# Altium integrated library TI Amplifiers and Linear Operational Amplifier Precision Amplifier Part One.IntLib: 2299 symbols (part 71 of 85)
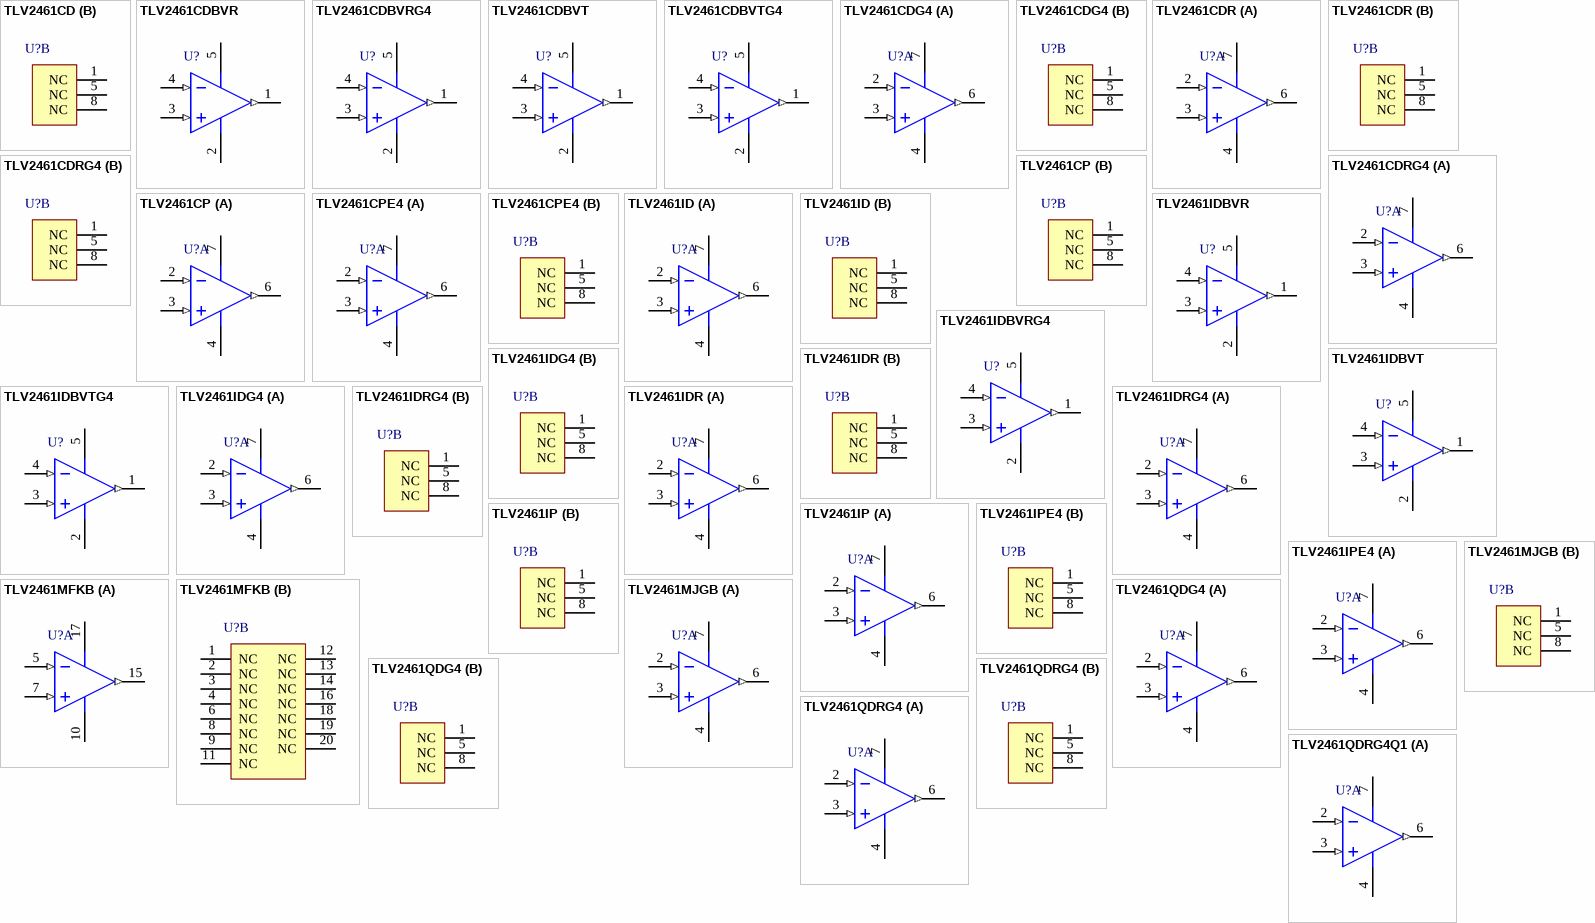
[diagram p194: symbols TLV2461CD to TLV2461QDRG4Q1]

## TLV2461CDBVRG4
designator U?
Single, Low Power, Rail-to-Rail Input / Output Operational Amplifier, 2.7 to 6 V, 0 to 70 degC, 5-pin SOT23 (DBV5), Green (RoHS & no Sb/Br); Manufacturer: Texas Instruments; PartNumber: TLV2461CDBVRG4; CMRR(Min)(dB): 66; IIB(Max)(pA): 14000; Iq per channel(Max)(mA): 0.575; Number of Channels: 1; Offset Drift(Typ)(uV/C): 2; Slew Rate(Typ)(V/us): 1.6; Sub Family: High Output Current Amplifier (>=50mA), Low Supply Voltage Amplifier (<=2.7V), Precision Amplifier; Total Supply Voltage(Max)(+5V is 5, +/-5V is 10): 6; Total Supply Voltage(Min)(+5V is 5, +/-5V is 10): 2.7; Vn at 1kHz(Typ)(nV/rtHz): 11; DatasheetVersion: SLOS220J; PackageVersion: 4073253-4/K, 03/2006; PackageReference: DBV5; PackageDescription: 5-Pin Plastic Small Outline, Body 1.6 x 2.9 mm, Pitch 0.95 mm; Supplier 1: Digi-Key; Supplier Part Number 1: TLV2461CDBVRG4-ND; Supplier 2: Newark; Supplier Part Number 2: 71J7980; Supplier 3: Mouser; Supplier Part Number 3: 595-TLV2461CDBVRG4; Eco-Plan: Green (RoHS & no Sb/Br); Vio (25C)(Max)(mV): 2; Mounting Technology: Surface Mount; Code_JEDEC: MO-178; ComponentLink1Description: Manufacturer URL; ComponentLink1URL: http://www.ti.com/; ComponentLink2Description: Datasheet; ComponentLink2URL: http://www.ti.com/general/docs/lit/getliterature.tsp?genericPartNumber=TLV2461&fileType=pdf; ComponentLink3Description: Package Specification; ComponentLink3URL: http://www.ti.com/litv/pdf/mpds018i
footprint TI-DBV5_N (SOT23, 5-Leads, Body 2.9x1.6mm, Pitch 0.95mm, IPC Medium Density)
footprint TI-DBV5_L (SOT23, 5-Leads, Body 2.9x1.6mm, Pitch 0.95mm, IPC High Density)
footprint TI-DBV5_M (SOT23, 5-Leads, Body 2.9x1.6mm, Pitch 0.95mm, IPC Low Density)
pins: 1 OUT (out), 2 GND (power), 3 IN+ (in), 4 IN- (in), 5 VDD (power)

## TLV2461CDBVT
designator U?
Single, Low Power, Rail-to-Rail Input / Output Operational Amplifier, 2.7 to 6 V, 0 to 70 degC, 5-pin SOT23 (DBV5), Green (RoHS & no Sb/Br); Manufacturer: Texas Instruments; PartNumber: TLV2461CDBVT; CMRR(Min)(dB): 66; IIB(Max)(pA): 14000; Iq per channel(Max)(mA): 0.575; Number of Channels: 1; Offset Drift(Typ)(uV/C): 2; Slew Rate(Typ)(V/us): 1.6; Sub Family: High Output Current Amplifier (>=50mA), Low Supply Voltage Amplifier (<=2.7V), Precision Amplifier; Total Supply Voltage(Max)(+5V is 5, +/-5V is 10): 6; Total Supply Voltage(Min)(+5V is 5, +/-5V is 10): 2.7; Vn at 1kHz(Typ)(nV/rtHz): 11; DatasheetVersion: SLOS220J; PackageVersion: 4073253-4/K, 03/2006; PackageReference: DBV5; PackageDescription: 5-Pin Plastic Small Outline, Body 1.6 x 2.9 mm, Pitch 0.95 mm; Supplier 1: Digi-Key; Supplier Part Number 1: 296-2433-2-ND; Supplier 2: Digi-Key; Supplier Part Number 2: 296-2433-1-ND; Supplier 3: Digi-Key; Supplier Part Number 3: 296-2433-6-ND; Supplier 4: Farnell; Supplier Part Number 4: 8455147; Supplier 5: Newark; Supplier Part Number 5: 38K8435; Supplier 6: Mouser; Supplier Part Number 6: 595-TLV2461CDBVT; Eco-Plan: Green (RoHS & no Sb/Br); Vio (25C)(Max)(mV): 2; Mounting Technology: Surface Mount; Code_JEDEC: MO-178; ComponentLink1Description: Manufacturer URL; ComponentLink1URL: http://www.ti.com/; ComponentLink2Description: Datasheet; ComponentLink2URL: http://www.ti.com/general/docs/lit/getliterature.tsp?genericPartNumber=TLV2461&fileType=pdf; ComponentLink3Description: Package Specification; ComponentLink3URL: http://www.ti.com/litv/pdf/mpds018i
footprint TI-DBV5_N (SOT23, 5-Leads, Body 2.9x1.6mm, Pitch 0.95mm, IPC Medium Density)
footprint TI-DBV5_L (SOT23, 5-Leads, Body 2.9x1.6mm, Pitch 0.95mm, IPC High Density)
footprint TI-DBV5_M (SOT23, 5-Leads, Body 2.9x1.6mm, Pitch 0.95mm, IPC Low Density)
pins: 1 OUT (out), 2 GND (power), 3 IN+ (in), 4 IN- (in), 5 VDD (power)

## TLV2461CDBVTG4
designator U?
Single, Low Power, Rail-to-Rail Input / Output Operational Amplifier, 2.7 to 6 V, 0 to 70 degC, 5-pin SOT23 (DBV5), Green (RoHS & no Sb/Br); Manufacturer: Texas Instruments; PartNumber: TLV2461CDBVTG4; CMRR(Min)(dB): 66; IIB(Max)(pA): 14000; Iq per channel(Max)(mA): 0.575; Number of Channels: 1; Offset Drift(Typ)(uV/C): 2; Slew Rate(Typ)(V/us): 1.6; Sub Family: High Output Current Amplifier (>=50mA), Low Supply Voltage Amplifier (<=2.7V), Precision Amplifier; Total Supply Voltage(Max)(+5V is 5, +/-5V is 10): 6; Total Supply Voltage(Min)(+5V is 5, +/-5V is 10): 2.7; Vn at 1kHz(Typ)(nV/rtHz): 11; DatasheetVersion: SLOS220J; PackageVersion: 4073253-4/K, 03/2006; PackageReference: DBV5; PackageDescription: 5-Pin Plastic Small Outline, Body 1.6 x 2.9 mm, Pitch 0.95 mm; Supplier 1: Digi-Key; Supplier Part Number 1: TLV2461CDBVTG4-ND; Supplier 2: Mouser; Supplier Part Number 2: 595-TLV2461CDBVTG4; Eco-Plan: Green (RoHS & no Sb/Br); Vio (25C)(Max)(mV): 2; Mounting Technology: Surface Mount; Code_JEDEC: MO-178; ComponentLink1Description: Manufacturer URL; ComponentLink1URL: http://www.ti.com/; ComponentLink2Description: Datasheet; ComponentLink2URL: http://www.ti.com/general/docs/lit/getliterature.tsp?genericPartNumber=TLV2461&fileType=pdf; ComponentLink3Description: Package Specification; ComponentLink3URL: http://www.ti.com/litv/pdf/mpds018i
footprint TI-DBV5_N (SOT23, 5-Leads, Body 2.9x1.6mm, Pitch 0.95mm, IPC Medium Density)
footprint TI-DBV5_L (SOT23, 5-Leads, Body 2.9x1.6mm, Pitch 0.95mm, IPC High Density)
footprint TI-DBV5_M (SOT23, 5-Leads, Body 2.9x1.6mm, Pitch 0.95mm, IPC Low Density)
pins: 1 OUT (out), 2 GND (power), 3 IN+ (in), 4 IN- (in), 5 VDD (power)

## TLV2461CDG4
designator U?
Single, Low Power, Rail-to-Rail Input / Output Operational Amplifier, 2.7 to 6 V, 0 to 70 degC, 8-pin SOIC (D8), Green (RoHS & no Sb/Br); Manufacturer: Texas Instruments; PartNumber: TLV2461CDG4; CMRR(Min)(dB): 66; IIB(Max)(pA): 14000; Iq per channel(Max)(mA): 0.575; Number of Channels: 1; Offset Drift(Typ)(uV/C): 2; Slew Rate(Typ)(V/us): 1.6; Sub Family: High Output Current Amplifier (>=50mA), Low Supply Voltage Amplifier (<=2.7V), Precision Amplifier; Total Supply Voltage(Max)(+5V is 5, +/-5V is 10): 6; Total Supply Voltage(Min)(+5V is 5, +/-5V is 10): 2.7; Vn at 1kHz(Typ)(nV/rtHz): 11; DatasheetVersion: SLOS220J; PackageVersion: 4040047-3/M, 06/2011; PackageReference: D8; PackageDescription: 8-Pin Plastic Small Outline, Body 4.9 x 3.9 mm, Pitch 1.27 mm; Supplier 1: Digi-Key; Supplier Part Number 1: TLV2461CDG4-ND; Supplier 2: Mouser; Supplier Part Number 2: 595-TLV2461CDG4; Eco-Plan: Green (RoHS & no Sb/Br); Vio (25C)(Max)(mV): 2; Mounting Technology: Surface Mount; Code_JEDEC: MS-012; ComponentLink1Description: Manufacturer URL; ComponentLink1URL: http://www.ti.com/; ComponentLink2Description: Datasheet; ComponentLink2URL: http://www.ti.com/general/docs/lit/getliterature.tsp?genericPartNumber=TLV2461&fileType=pdf; ComponentLink3Description: Package Specification; ComponentLink3URL: http://www.ti.com/litv/pdf/msoi002j
footprint TI-D8_N (SOIC, 8-Leads, Body 4.9x3.9mm, Pitch 1.27mm, IPC Medium Density)
footprint TI-D8_L (SOIC, 8-Leads, Body 4.9x3.9mm, Pitch 1.27mm, IPC High Density)
footprint TI-D8_M (SOIC, 8-Leads, Body 4.9x3.9mm, Pitch 1.27mm, IPC Low Density)
part A pins: 2 IN- (in), 3 IN+ (in), 4 GND (power), 6 OUT (out), 7 VDD+ (power)
part B pins: 1 NC, 5 NC, 8 NC

## TLV2461CDR
designator U?
Single, Low Power, Rail-to-Rail Input / Output Operational Amplifier, 2.7 to 6 V, 0 to 70 degC, 8-pin SOIC (D8), Green (RoHS & no Sb/Br); Manufacturer: Texas Instruments; PartNumber: TLV2461CDR; CMRR(Min)(dB): 66; IIB(Max)(pA): 14000; Iq per channel(Max)(mA): 0.575; Number of Channels: 1; Offset Drift(Typ)(uV/C): 2; Slew Rate(Typ)(V/us): 1.6; Sub Family: High Output Current Amplifier (>=50mA), Low Supply Voltage Amplifier (<=2.7V), Precision Amplifier; Total Supply Voltage(Max)(+5V is 5, +/-5V is 10): 6; Total Supply Voltage(Min)(+5V is 5, +/-5V is 10): 2.7; Vn at 1kHz(Typ)(nV/rtHz): 11; DatasheetVersion: SLOS220J; PackageVersion: 4040047-3/M, 06/2011; PackageReference: D8; PackageDescription: 8-Pin Plastic Small Outline, Body 4.9 x 3.9 mm, Pitch 1.27 mm; Supplier 1: Digi-Key; Supplier Part Number 1: 296-7488-2-ND; Supplier 2: Digi-Key; Supplier Part Number 2: 296-7488-1-ND; Supplier 3: Digi-Key; Supplier Part Number 3: 296-7488-6-ND; Supplier 4: Newark; Supplier Part Number 4: 76C8188; Supplier 5: Mouser; Supplier Part Number 5: 595-TLV2461CDR; Eco-Plan: Green (RoHS & no Sb/Br); Vio (25C)(Max)(mV): 2; Mounting Technology: Surface Mount; Code_JEDEC: MS-012; ComponentLink1Description: Manufacturer URL; ComponentLink1URL: http://www.ti.com/; ComponentLink2Description: Datasheet; ComponentLink2URL: http://www.ti.com/general/docs/lit/getliterature.tsp?genericPartNumber=TLV2461&fileType=pdf; ComponentLink3Description: Package Specification; ComponentLink3URL: http://www.ti.com/litv/pdf/msoi002j
footprint TI-D8_N (SOIC, 8-Leads, Body 4.9x3.9mm, Pitch 1.27mm, IPC Medium Density)
footprint TI-D8_L (SOIC, 8-Leads, Body 4.9x3.9mm, Pitch 1.27mm, IPC High Density)
footprint TI-D8_M (SOIC, 8-Leads, Body 4.9x3.9mm, Pitch 1.27mm, IPC Low Density)
part A pins: 2 IN- (in), 3 IN+ (in), 4 GND (power), 6 OUT (out), 7 VDD+ (power)
part B pins: 1 NC, 5 NC, 8 NC

## TLV2461CDRG4
designator U?
Single, Low Power, Rail-to-Rail Input / Output Operational Amplifier, 2.7 to 6 V, 0 to 70 degC, 8-pin SOIC (D8), Green (RoHS & no Sb/Br); Manufacturer: Texas Instruments; PartNumber: TLV2461CDRG4; CMRR(Min)(dB): 66; IIB(Max)(pA): 14000; Iq per channel(Max)(mA): 0.575; Number of Channels: 1; Offset Drift(Typ)(uV/C): 2; Slew Rate(Typ)(V/us): 1.6; Sub Family: High Output Current Amplifier (>=50mA), Low Supply Voltage Amplifier (<=2.7V), Precision Amplifier; Total Supply Voltage(Max)(+5V is 5, +/-5V is 10): 6; Total Supply Voltage(Min)(+5V is 5, +/-5V is 10): 2.7; Vn at 1kHz(Typ)(nV/rtHz): 11; DatasheetVersion: SLOS220J; PackageVersion: 4040047-3/M, 06/2011; PackageReference: D8; PackageDescription: 8-Pin Plastic Small Outline, Body 4.9 x 3.9 mm, Pitch 1.27 mm; Supplier 1: Digi-Key; Supplier Part Number 1: TLV2461CDRG4-ND; Supplier 2: Mouser; Supplier Part Number 2: 595-TLV2461CDRG4; Eco-Plan: Green (RoHS & no Sb/Br); Vio (25C)(Max)(mV): 2; Mounting Technology: Surface Mount; Code_JEDEC: MS-012; ComponentLink1Description: Manufacturer URL; ComponentLink1URL: http://www.ti.com/; ComponentLink2Description: Datasheet; ComponentLink2URL: http://www.ti.com/general/docs/lit/getliterature.tsp?genericPartNumber=TLV2461&fileType=pdf; ComponentLink3Description: Package Specification; ComponentLink3URL: http://www.ti.com/litv/pdf/msoi002j
footprint TI-D8_N (SOIC, 8-Leads, Body 4.9x3.9mm, Pitch 1.27mm, IPC Medium Density)
footprint TI-D8_L (SOIC, 8-Leads, Body 4.9x3.9mm, Pitch 1.27mm, IPC High Density)
footprint TI-D8_M (SOIC, 8-Leads, Body 4.9x3.9mm, Pitch 1.27mm, IPC Low Density)
part A pins: 2 IN- (in), 3 IN+ (in), 4 GND (power), 6 OUT (out), 7 VDD+ (power)
part B pins: 1 NC, 5 NC, 8 NC

## TLV2461CP
designator U?
Single, Low Power, Rail-to-Rail Input / Output Operational Amplifier, 2.7 to 6 V, 0 to 70 degC, 8-pin DIP (P8), Pb-Free (RoHS); Manufacturer: Texas Instruments; PartNumber: TLV2461CP; CMRR(Min)(dB): 66; IIB(Max)(pA): 14000; Iq per channel(Max)(mA): 0.575; Number of Channels: 1; Offset Drift(Typ)(uV/C): 2; Slew Rate(Typ)(V/us): 1.6; Sub Family: High Output Current Amplifier (>=50mA), Low Supply Voltage Amplifier (<=2.7V), Precision Amplifier; Total Supply Voltage(Max)(+5V is 5, +/-5V is 10): 6; Total Supply Voltage(Min)(+5V is 5, +/-5V is 10): 2.7; Vn at 1kHz(Typ)(nV/rtHz): 11; DatasheetVersion: SLOS220J; PackageVersion: 4040082/E, 04/2010; PackageReference: P8; PackageDescription: 8-Pin Plastic In-Line, Body 9.59 x 6.35 mm, Pitch 2.54 mm; Supplier 1: Digi-Key; Supplier Part Number 1: 296-7489-5-ND; Supplier 2: Farnell; Supplier Part Number 2: 1509775; Supplier 3: Mouser; Supplier Part Number 3: 595-TLV2461CP; Eco-Plan: Pb-Free (RoHS); Vio (25C)(Max)(mV): 2; Mounting Technology: Through Hole; Code_JEDEC: MS-001; ComponentLink1Description: Manufacturer URL; ComponentLink1URL: http://www.ti.com/; ComponentLink2Description: Datasheet; ComponentLink2URL: http://www.ti.com/general/docs/lit/getliterature.tsp?genericPartNumber=TLV2461&fileType=pdf; ComponentLink3Description: Package Specification; ComponentLink3URL: http://www.ti.com/litv/pdf/mpdi001b
footprint TI-P8 (DIP, 8-Leads, Body 9.59x6.35mm, Pitch 2.54mm)
part A pins: 2 IN- (in), 3 IN+ (in), 4 GND (power), 6 OUT (out), 7 VDD+ (power)
part B pins: 1 NC, 5 NC, 8 NC

## TLV2461CPE4
designator U?
Single, Low Power, Rail-to-Rail Input / Output Operational Amplifier, 2.7 to 6 V, 0 to 70 degC, 8-pin DIP (P8), Pb-Free (RoHS); Manufacturer: Texas Instruments; PartNumber: TLV2461CPE4; CMRR(Min)(dB): 66; IIB(Max)(pA): 14000; Iq per channel(Max)(mA): 0.575; Number of Channels: 1; Offset Drift(Typ)(uV/C): 2; Slew Rate(Typ)(V/us): 1.6; Sub Family: High Output Current Amplifier (>=50mA), Low Supply Voltage Amplifier (<=2.7V), Precision Amplifier; Total Supply Voltage(Max)(+5V is 5, +/-5V is 10): 6; Total Supply Voltage(Min)(+5V is 5, +/-5V is 10): 2.7; Vn at 1kHz(Typ)(nV/rtHz): 11; DatasheetVersion: SLOS220J; PackageVersion: 4040082/E, 04/2010; PackageReference: P8; PackageDescription: 8-Pin Plastic In-Line, Body 9.59 x 6.35 mm, Pitch 2.54 mm; Supplier 1: Digi-Key; Supplier Part Number 1: TLV2461CPE4-ND; Supplier 2: Mouser; Supplier Part Number 2: 595-TLV2461CPE4; Eco-Plan: Pb-Free (RoHS); Vio (25C)(Max)(mV): 2; Mounting Technology: Through Hole; Code_JEDEC: MS-001; ComponentLink1Description: Manufacturer URL; ComponentLink1URL: http://www.ti.com/; ComponentLink2Description: Datasheet; ComponentLink2URL: http://www.ti.com/general/docs/lit/getliterature.tsp?genericPartNumber=TLV2461&fileType=pdf; ComponentLink3Description: Package Specification; ComponentLink3URL: http://www.ti.com/litv/pdf/mpdi001b
footprint TI-P8 (DIP, 8-Leads, Body 9.59x6.35mm, Pitch 2.54mm)
part A pins: 2 IN- (in), 3 IN+ (in), 4 GND (power), 6 OUT (out), 7 VDD+ (power)
part B pins: 1 NC, 5 NC, 8 NC

## TLV2461ID
designator U?
Single, Low Power, Rail-to-Rail Input / Output Operational Amplifier, 2.7 to 6 V, -40 to 125 degC, 8-pin SOIC (D8), Green (RoHS & no Sb/Br); Manufacturer: Texas Instruments; PartNumber: TLV2461ID; CMRR(Min)(dB): 66; IIB(Max)(pA): 14000; Iq per channel(Max)(mA): 0.575; Number of Channels: 1; Offset Drift(Typ)(uV/C): 2; Slew Rate(Typ)(V/us): 1.6; Sub Family: High Output Current Amplifier (>=50mA), Low Supply Voltage Amplifier (<=2.7V), Precision Amplifier; Total Supply Voltage(Max)(+5V is 5, +/-5V is 10): 6; Total Supply Voltage(Min)(+5V is 5, +/-5V is 10): 2.7; Vn at 1kHz(Typ)(nV/rtHz): 11; DatasheetVersion: SLOS220J; PackageVersion: 4040047-3/M, 06/2011; PackageReference: D8; PackageDescription: 8-Pin Plastic Small Outline, Body 4.9 x 3.9 mm, Pitch 1.27 mm; Supplier 1: Digi-Key; Supplier Part Number 1: 296-34440-5-ND; Supplier 2: Mouser; Supplier Part Number 2: 595-TLV2461ID; Eco-Plan: Green (RoHS & no Sb/Br); Vio (25C)(Max)(mV): 2; Mounting Technology: Surface Mount; Code_JEDEC: MS-012; ComponentLink1Description: Manufacturer URL; ComponentLink1URL: http://www.ti.com/; ComponentLink2Description: Datasheet; ComponentLink2URL: http://www.ti.com/general/docs/lit/getliterature.tsp?genericPartNumber=TLV2461&fileType=pdf; ComponentLink3Description: Package Specification; ComponentLink3URL: http://www.ti.com/litv/pdf/msoi002j
footprint TI-D8_N (SOIC, 8-Leads, Body 4.9x3.9mm, Pitch 1.27mm, IPC Medium Density)
footprint TI-D8_L (SOIC, 8-Leads, Body 4.9x3.9mm, Pitch 1.27mm, IPC High Density)
footprint TI-D8_M (SOIC, 8-Leads, Body 4.9x3.9mm, Pitch 1.27mm, IPC Low Density)
part A pins: 2 IN- (in), 3 IN+ (in), 4 GND (power), 6 OUT (out), 7 VDD+ (power)
part B pins: 1 NC, 5 NC, 8 NC

## TLV2461IDBVR
designator U?
Single, Low Power, Rail-to-Rail Input / Output Operational Amplifier, 2.7 to 6 V, -40 to 125 degC, 5-pin SOT23 (DBV5), Green (RoHS & no Sb/Br); Manufacturer: Texas Instruments; PartNumber: TLV2461IDBVR; CMRR(Min)(dB): 66; IIB(Max)(pA): 14000; Iq per channel(Max)(mA): 0.575; Number of Channels: 1; Offset Drift(Typ)(uV/C): 2; Slew Rate(Typ)(V/us): 1.6; Sub Family: High Output Current Amplifier (>=50mA), Low Supply Voltage Amplifier (<=2.7V), Precision Amplifier; Total Supply Voltage(Max)(+5V is 5, +/-5V is 10): 6; Total Supply Voltage(Min)(+5V is 5, +/-5V is 10): 2.7; Vn at 1kHz(Typ)(nV/rtHz): 11; DatasheetVersion: SLOS220J; PackageVersion: 4073253-4/K, 03/2006; PackageReference: DBV5; PackageDescription: 5-Pin Plastic Small Outline, Body 1.6 x 2.9 mm, Pitch 0.95 mm; Supplier 1: Digi-Key; Supplier Part Number 1: 296-7490-2-ND; Supplier 2: Digi-Key; Supplier Part Number 2: 296-7490-1-ND; Supplier 3: Digi-Key; Supplier Part Number 3: 296-7490-6-ND; Supplier 4: Farnell; Supplier Part Number 4: 1575390; Supplier 5: Newark; Supplier Part Number 5: 74C0795; Supplier 6: Mouser; Supplier Part Number 6: 595-TLV2461IDBVR; Eco-Plan: Green (RoHS & no Sb/Br); Vio (25C)(Max)(mV): 2; Mounting Technology: Surface Mount; Code_JEDEC: MO-178; ComponentLink1Description: Manufacturer URL; ComponentLink1URL: http://www.ti.com/; ComponentLink2Description: Datasheet; ComponentLink2URL: http://www.ti.com/general/docs/lit/getliterature.tsp?genericPartNumber=TLV2461&fileType=pdf; ComponentLink3Description: Package Specification; ComponentLink3URL: http://www.ti.com/litv/pdf/mpds018i
footprint TI-DBV5_N (SOT23, 5-Leads, Body 2.9x1.6mm, Pitch 0.95mm, IPC Medium Density)
footprint TI-DBV5_L (SOT23, 5-Leads, Body 2.9x1.6mm, Pitch 0.95mm, IPC High Density)
footprint TI-DBV5_M (SOT23, 5-Leads, Body 2.9x1.6mm, Pitch 0.95mm, IPC Low Density)
pins: 1 OUT (out), 2 GND (power), 3 IN+ (in), 4 IN- (in), 5 VDD (power)

## TLV2461IDBVRG4
designator U?
Single, Low Power, Rail-to-Rail Input / Output Operational Amplifier, 2.7 to 6 V, -40 to 125 degC, 5-pin SOT23 (DBV5), Green (RoHS & no Sb/Br); Manufacturer: Texas Instruments; PartNumber: TLV2461IDBVRG4; CMRR(Min)(dB): 66; IIB(Max)(pA): 14000; Iq per channel(Max)(mA): 0.575; Number of Channels: 1; Offset Drift(Typ)(uV/C): 2; Slew Rate(Typ)(V/us): 1.6; Sub Family: High Output Current Amplifier (>=50mA), Low Supply Voltage Amplifier (<=2.7V), Precision Amplifier; Total Supply Voltage(Max)(+5V is 5, +/-5V is 10): 6; Total Supply Voltage(Min)(+5V is 5, +/-5V is 10): 2.7; Vn at 1kHz(Typ)(nV/rtHz): 11; DatasheetVersion: SLOS220J; PackageVersion: 4073253-4/K, 03/2006; PackageReference: DBV5; PackageDescription: 5-Pin Plastic Small Outline, Body 1.6 x 2.9 mm, Pitch 0.95 mm; Supplier 1: Digi-Key; Supplier Part Number 1: TLV2461IDBVRG4-ND; Supplier 2: Newark; Supplier Part Number 2: 71J7982; Supplier 3: Mouser; Supplier Part Number 3: 595-TLV2461IDBVRG4; Eco-Plan: Green (RoHS & no Sb/Br); Vio (25C)(Max)(mV): 2; Mounting Technology: Surface Mount; Code_JEDEC: MO-178; ComponentLink1Description: Manufacturer URL; ComponentLink1URL: http://www.ti.com/; ComponentLink2Description: Datasheet; ComponentLink2URL: http://www.ti.com/general/docs/lit/getliterature.tsp?genericPartNumber=TLV2461&fileType=pdf; ComponentLink3Description: Package Specification; ComponentLink3URL: http://www.ti.com/litv/pdf/mpds018i
footprint TI-DBV5_N (SOT23, 5-Leads, Body 2.9x1.6mm, Pitch 0.95mm, IPC Medium Density)
footprint TI-DBV5_L (SOT23, 5-Leads, Body 2.9x1.6mm, Pitch 0.95mm, IPC High Density)
footprint TI-DBV5_M (SOT23, 5-Leads, Body 2.9x1.6mm, Pitch 0.95mm, IPC Low Density)
pins: 1 OUT (out), 2 GND (power), 3 IN+ (in), 4 IN- (in), 5 VDD (power)

## TLV2461IDBVT
designator U?
Single, Low Power, Rail-to-Rail Input / Output Operational Amplifier, 2.7 to 6 V, -40 to 125 degC, 5-pin SOT23 (DBV5), Green (RoHS & no Sb/Br); Manufacturer: Texas Instruments; PartNumber: TLV2461IDBVT; CMRR(Min)(dB): 66; IIB(Max)(pA): 14000; Iq per channel(Max)(mA): 0.575; Number of Channels: 1; Offset Drift(Typ)(uV/C): 2; Slew Rate(Typ)(V/us): 1.6; Sub Family: High Output Current Amplifier (>=50mA), Low Supply Voltage Amplifier (<=2.7V), Precision Amplifier; Total Supply Voltage(Max)(+5V is 5, +/-5V is 10): 6; Total Supply Voltage(Min)(+5V is 5, +/-5V is 10): 2.7; Vn at 1kHz(Typ)(nV/rtHz): 11; DatasheetVersion: SLOS220J; PackageVersion: 4073253-4/K, 03/2006; PackageReference: DBV5; PackageDescription: 5-Pin Plastic Small Outline, Body 1.6 x 2.9 mm, Pitch 0.95 mm; Supplier 1: Digi-Key; Supplier Part Number 1: 296-26795-2-ND; Supplier 2: Digi-Key; Supplier Part Number 2: 296-26795-1-ND; Supplier 3: Digi-Key; Supplier Part Number 3: 296-26795-6-ND; Supplier 4: Newark; Supplier Part Number 4: 74C0798; Supplier 5: Mouser; Supplier Part Number 5: 595-TLV2461IDBVT; Eco-Plan: Green (RoHS & no Sb/Br); Vio (25C)(Max)(mV): 2; Mounting Technology: Surface Mount; Code_JEDEC: MO-178; ComponentLink1Description: Manufacturer URL; ComponentLink1URL: http://www.ti.com/; ComponentLink2Description: Datasheet; ComponentLink2URL: http://www.ti.com/general/docs/lit/getliterature.tsp?genericPartNumber=TLV2461&fileType=pdf; ComponentLink3Description: Package Specification; ComponentLink3URL: http://www.ti.com/litv/pdf/mpds018i
footprint TI-DBV5_N (SOT23, 5-Leads, Body 2.9x1.6mm, Pitch 0.95mm, IPC Medium Density)
footprint TI-DBV5_L (SOT23, 5-Leads, Body 2.9x1.6mm, Pitch 0.95mm, IPC High Density)
footprint TI-DBV5_M (SOT23, 5-Leads, Body 2.9x1.6mm, Pitch 0.95mm, IPC Low Density)
pins: 1 OUT (out), 2 GND (power), 3 IN+ (in), 4 IN- (in), 5 VDD (power)

## TLV2461IDBVTG4
designator U?
Single, Low Power, Rail-to-Rail Input / Output Operational Amplifier, 2.7 to 6 V, -40 to 125 degC, 5-pin SOT23 (DBV5), Green (RoHS & no Sb/Br); Manufacturer: Texas Instruments; PartNumber: TLV2461IDBVTG4; CMRR(Min)(dB): 66; IIB(Max)(pA): 14000; Iq per channel(Max)(mA): 0.575; Number of Channels: 1; Offset Drift(Typ)(uV/C): 2; Slew Rate(Typ)(V/us): 1.6; Sub Family: High Output Current Amplifier (>=50mA), Low Supply Voltage Amplifier (<=2.7V), Precision Amplifier; Total Supply Voltage(Max)(+5V is 5, +/-5V is 10): 6; Total Supply Voltage(Min)(+5V is 5, +/-5V is 10): 2.7; Vn at 1kHz(Typ)(nV/rtHz): 11; DatasheetVersion: SLOS220J; PackageVersion: 4073253-4/K, 03/2006; PackageReference: DBV5; PackageDescription: 5-Pin Plastic Small Outline, Body 1.6 x 2.9 mm, Pitch 0.95 mm; Supplier 1: Digi-Key; Supplier Part Number 1: TLV2461IDBVTG4-ND; Supplier 2: Mouser; Supplier Part Number 2: 595-TLV2461IDBVTG4; Eco-Plan: Green (RoHS & no Sb/Br); Vio (25C)(Max)(mV): 2; Mounting Technology: Surface Mount; Code_JEDEC: MO-178; ComponentLink1Description: Manufacturer URL; ComponentLink1URL: http://www.ti.com/; ComponentLink2Description: Datasheet; ComponentLink2URL: http://www.ti.com/general/docs/lit/getliterature.tsp?genericPartNumber=TLV2461&fileType=pdf; ComponentLink3Description: Package Specification; ComponentLink3URL: http://www.ti.com/litv/pdf/mpds018i
footprint TI-DBV5_N (SOT23, 5-Leads, Body 2.9x1.6mm, Pitch 0.95mm, IPC Medium Density)
footprint TI-DBV5_L (SOT23, 5-Leads, Body 2.9x1.6mm, Pitch 0.95mm, IPC High Density)
footprint TI-DBV5_M (SOT23, 5-Leads, Body 2.9x1.6mm, Pitch 0.95mm, IPC Low Density)
pins: 1 OUT (out), 2 GND (power), 3 IN+ (in), 4 IN- (in), 5 VDD (power)

## TLV2461IDG4
designator U?
Single, Low Power, Rail-to-Rail Input / Output Operational Amplifier, 2.7 to 6 V, -40 to 125 degC, 8-pin SOIC (D8), Green (RoHS & no Sb/Br); Manufacturer: Texas Instruments; PartNumber: TLV2461IDG4; CMRR(Min)(dB): 66; IIB(Max)(pA): 14000; Iq per channel(Max)(mA): 0.575; Number of Channels: 1; Offset Drift(Typ)(uV/C): 2; Slew Rate(Typ)(V/us): 1.6; Sub Family: High Output Current Amplifier (>=50mA), Low Supply Voltage Amplifier (<=2.7V), Precision Amplifier; Total Supply Voltage(Max)(+5V is 5, +/-5V is 10): 6; Total Supply Voltage(Min)(+5V is 5, +/-5V is 10): 2.7; Vn at 1kHz(Typ)(nV/rtHz): 11; DatasheetVersion: SLOS220J; PackageVersion: 4040047-3/M, 06/2011; PackageReference: D8; PackageDescription: 8-Pin Plastic Small Outline, Body 4.9 x 3.9 mm, Pitch 1.27 mm; Supplier 1: Digi-Key; Supplier Part Number 1: TLV2461IDG4-ND; Supplier 2: Mouser; Supplier Part Number 2: 595-TLV2461IDG4; Eco-Plan: Green (RoHS & no Sb/Br); Vio (25C)(Max)(mV): 2; Mounting Technology: Surface Mount; Code_JEDEC: MS-012; ComponentLink1Description: Manufacturer URL; ComponentLink1URL: http://www.ti.com/; ComponentLink2Description: Datasheet; ComponentLink2URL: http://www.ti.com/general/docs/lit/getliterature.tsp?genericPartNumber=TLV2461&fileType=pdf; ComponentLink3Description: Package Specification; ComponentLink3URL: http://www.ti.com/litv/pdf/msoi002j
footprint TI-D8_N (SOIC, 8-Leads, Body 4.9x3.9mm, Pitch 1.27mm, IPC Medium Density)
footprint TI-D8_L (SOIC, 8-Leads, Body 4.9x3.9mm, Pitch 1.27mm, IPC High Density)
footprint TI-D8_M (SOIC, 8-Leads, Body 4.9x3.9mm, Pitch 1.27mm, IPC Low Density)
part A pins: 2 IN- (in), 3 IN+ (in), 4 GND (power), 6 OUT (out), 7 VDD+ (power)
part B pins: 1 NC, 5 NC, 8 NC

## TLV2461IDR
designator U?
Single, Low Power, Rail-to-Rail Input / Output Operational Amplifier, 2.7 to 6 V, -40 to 125 degC, 8-pin SOIC (D8), Green (RoHS & no Sb/Br); Manufacturer: Texas Instruments; PartNumber: TLV2461IDR; CMRR(Min)(dB): 66; IIB(Max)(pA): 14000; Iq per channel(Max)(mA): 0.575; Number of Channels: 1; Offset Drift(Typ)(uV/C): 2; Slew Rate(Typ)(V/us): 1.6; Sub Family: High Output Current Amplifier (>=50mA), Low Supply Voltage Amplifier (<=2.7V), Precision Amplifier; Total Supply Voltage(Max)(+5V is 5, +/-5V is 10): 6; Total Supply Voltage(Min)(+5V is 5, +/-5V is 10): 2.7; Vn at 1kHz(Typ)(nV/rtHz): 11; DatasheetVersion: SLOS220J; PackageVersion: 4040047-3/M, 06/2011; PackageReference: D8; PackageDescription: 8-Pin Plastic Small Outline, Body 4.9 x 3.9 mm, Pitch 1.27 mm; Supplier 1: Digi-Key; Supplier Part Number 1: 296-7491-2-ND; Supplier 2: Digi-Key; Supplier Part Number 2: 296-7491-1-ND; Supplier 3: Digi-Key; Supplier Part Number 3: 296-7491-6-ND; Supplier 4: Newark; Supplier Part Number 4: 76C8190; Supplier 5: Mouser; Supplier Part Number 5: 595-TLV2461IDR; Eco-Plan: Green (RoHS & no Sb/Br); Vio (25C)(Max)(mV): 2; Mounting Technology: Surface Mount; Code_JEDEC: MS-012; ComponentLink1Description: Manufacturer URL; ComponentLink1URL: http://www.ti.com/; ComponentLink2Description: Datasheet; ComponentLink2URL: http://www.ti.com/general/docs/lit/getliterature.tsp?genericPartNumber=TLV2461&fileType=pdf; ComponentLink3Description: Package Specification; ComponentLink3URL: http://www.ti.com/litv/pdf/msoi002j
footprint TI-D8_N (SOIC, 8-Leads, Body 4.9x3.9mm, Pitch 1.27mm, IPC Medium Density)
footprint TI-D8_L (SOIC, 8-Leads, Body 4.9x3.9mm, Pitch 1.27mm, IPC High Density)
footprint TI-D8_M (SOIC, 8-Leads, Body 4.9x3.9mm, Pitch 1.27mm, IPC Low Density)
part A pins: 2 IN- (in), 3 IN+ (in), 4 GND (power), 6 OUT (out), 7 VDD+ (power)
part B pins: 1 NC, 5 NC, 8 NC

## TLV2461IDRG4
designator U?
Single, Low Power, Rail-to-Rail Input / Output Operational Amplifier, 2.7 to 6 V, -40 to 125 degC, 8-pin SOIC (D8), Green (RoHS & no Sb/Br); Manufacturer: Texas Instruments; PartNumber: TLV2461IDRG4; CMRR(Min)(dB): 66; IIB(Max)(pA): 14000; Iq per channel(Max)(mA): 0.575; Number of Channels: 1; Offset Drift(Typ)(uV/C): 2; Slew Rate(Typ)(V/us): 1.6; Sub Family: High Output Current Amplifier (>=50mA), Low Supply Voltage Amplifier (<=2.7V), Precision Amplifier; Total Supply Voltage(Max)(+5V is 5, +/-5V is 10): 6; Total Supply Voltage(Min)(+5V is 5, +/-5V is 10): 2.7; Vn at 1kHz(Typ)(nV/rtHz): 11; DatasheetVersion: SLOS220J; PackageVersion: 4040047-3/M, 06/2011; PackageReference: D8; PackageDescription: 8-Pin Plastic Small Outline, Body 4.9 x 3.9 mm, Pitch 1.27 mm; Supplier 1: Digi-Key; Supplier Part Number 1: TLV2461IDRG4-ND; Supplier 2: Mouser; Supplier Part Number 2: 595-TLV2461IDRG4; Eco-Plan: Green (RoHS & no Sb/Br); Vio (25C)(Max)(mV): 2; Mounting Technology: Surface Mount; Code_JEDEC: MS-012; ComponentLink1Description: Manufacturer URL; ComponentLink1URL: http://www.ti.com/; ComponentLink2Description: Datasheet; ComponentLink2URL: http://www.ti.com/general/docs/lit/getliterature.tsp?genericPartNumber=TLV2461&fileType=pdf; ComponentLink3Description: Package Specification; ComponentLink3URL: http://www.ti.com/litv/pdf/msoi002j
footprint TI-D8_N (SOIC, 8-Leads, Body 4.9x3.9mm, Pitch 1.27mm, IPC Medium Density)
footprint TI-D8_L (SOIC, 8-Leads, Body 4.9x3.9mm, Pitch 1.27mm, IPC High Density)
footprint TI-D8_M (SOIC, 8-Leads, Body 4.9x3.9mm, Pitch 1.27mm, IPC Low Density)
part A pins: 2 IN- (in), 3 IN+ (in), 4 GND (power), 6 OUT (out), 7 VDD+ (power)
part B pins: 1 NC, 5 NC, 8 NC

## TLV2461IP
designator U?
Single, Low Power, Rail-to-Rail Input / Output Operational Amplifier, 2.7 to 6 V, -40 to 125 degC, 8-pin DIP (P8), Pb-Free (RoHS); Manufacturer: Texas Instruments; PartNumber: TLV2461IP; CMRR(Min)(dB): 66; IIB(Max)(pA): 14000; Iq per channel(Max)(mA): 0.575; Number of Channels: 1; Offset Drift(Typ)(uV/C): 2; Slew Rate(Typ)(V/us): 1.6; Sub Family: High Output Current Amplifier (>=50mA), Low Supply Voltage Amplifier (<=2.7V), Precision Amplifier; Total Supply Voltage(Max)(+5V is 5, +/-5V is 10): 6; Total Supply Voltage(Min)(+5V is 5, +/-5V is 10): 2.7; Vn at 1kHz(Typ)(nV/rtHz): 11; DatasheetVersion: SLOS220J; PackageVersion: 4040082/E, 04/2010; PackageReference: P8; PackageDescription: 8-Pin Plastic In-Line, Body 9.59 x 6.35 mm, Pitch 2.54 mm; Supplier 1: Digi-Key; Supplier Part Number 1: 296-7492-5-ND; Supplier 2: Mouser; Supplier Part Number 2: 595-TLV2461IP; Eco-Plan: Pb-Free (RoHS); Vio (25C)(Max)(mV): 2; Mounting Technology: Through Hole; Code_JEDEC: MS-001; ComponentLink1Description: Manufacturer URL; ComponentLink1URL: http://www.ti.com/; ComponentLink2Description: Datasheet; ComponentLink2URL: http://www.ti.com/general/docs/lit/getliterature.tsp?genericPartNumber=TLV2461&fileType=pdf; ComponentLink3Description: Package Specification; ComponentLink3URL: http://www.ti.com/litv/pdf/mpdi001b
footprint TI-P8 (DIP, 8-Leads, Body 9.59x6.35mm, Pitch 2.54mm)
part A pins: 2 IN- (in), 3 IN+ (in), 4 GND (power), 6 OUT (out), 7 VDD+ (power)
part B pins: 1 NC, 5 NC, 8 NC

## TLV2461IPE4
designator U?
Single, Low Power, Rail-to-Rail Input / Output Operational Amplifier, 2.7 to 6 V, -40 to 125 degC, 8-pin DIP (P8), Pb-Free (RoHS); Manufacturer: Texas Instruments; PartNumber: TLV2461IPE4; CMRR(Min)(dB): 66; IIB(Max)(pA): 14000; Iq per channel(Max)(mA): 0.575; Number of Channels: 1; Offset Drift(Typ)(uV/C): 2; Slew Rate(Typ)(V/us): 1.6; Sub Family: High Output Current Amplifier (>=50mA), Low Supply Voltage Amplifier (<=2.7V), Precision Amplifier; Total Supply Voltage(Max)(+5V is 5, +/-5V is 10): 6; Total Supply Voltage(Min)(+5V is 5, +/-5V is 10): 2.7; Vn at 1kHz(Typ)(nV/rtHz): 11; DatasheetVersion: SLOS220J; PackageVersion: 4040082/E, 04/2010; PackageReference: P8; PackageDescription: 8-Pin Plastic In-Line, Body 9.59 x 6.35 mm, Pitch 2.54 mm; Supplier 1: Digi-Key; Supplier Part Number 1: TLV2461IPE4-ND; Supplier 2: Mouser; Supplier Part Number 2: 595-TLV2461IPE4; Eco-Plan: Pb-Free (RoHS); Vio (25C)(Max)(mV): 2; Mounting Technology: Through Hole; Code_JEDEC: MS-001; ComponentLink1Description: Manufacturer URL; ComponentLink1URL: http://www.ti.com/; ComponentLink2Description: Datasheet; ComponentLink2URL: http://www.ti.com/general/docs/lit/getliterature.tsp?genericPartNumber=TLV2461&fileType=pdf; ComponentLink3Description: Package Specification; ComponentLink3URL: http://www.ti.com/litv/pdf/mpdi001b
footprint TI-P8 (DIP, 8-Leads, Body 9.59x6.35mm, Pitch 2.54mm)
part A pins: 2 IN- (in), 3 IN+ (in), 4 GND (power), 6 OUT (out), 7 VDD+ (power)
part B pins: 1 NC, 5 NC, 8 NC

## TLV2461MFKB
designator U?
Single, Low Power, Rail-to-Rail Input / Output Operational Amplifier, 2.7 to 6 V, -55 to 125 degC, 20-pin LCC (FK20); Manufacturer: Texas Instruments; PartNumber: TLV2461MFKB; CMRR(Min)(dB): 66; IIB(Max)(pA): 14000; Iq per channel(Max)(mA): 0.575; Number of Channels: 1; Offset Drift(Typ)(uV/C): 2; Slew Rate(Typ)(V/us): 1.6; Sub Family: High Output Current Amplifier (>=50mA), Low Supply Voltage Amplifier (<=2.7V), Precision Amplifier; Total Supply Voltage(Max)(+5V is 5, +/-5V is 10): 6; Total Supply Voltage(Min)(+5V is 5, +/-5V is 10): 2.7; Vn at 1kHz(Typ)(nV/rtHz): 11; DatasheetVersion: SLOS220J; PackageVersion: 4040140/D, 01/2011; PackageReference: FK20; PackageDescription: 20-Pin Ceramic, Metal Chip Carrier, Body 8.89 x 8.89 mm, Pitch 1.27 mm; Vio (25C)(Max)(mV): 2; Mounting Technology: Surface Mount; Code_JEDEC: MS-004; ComponentLink1Description: Manufacturer URL; ComponentLink1URL: http://www.ti.com/; ComponentLink2Description: Datasheet; ComponentLink2URL: http://www.ti.com/general/docs/lit/getliterature.tsp?genericPartNumber=TLV2461M&fileType=pdf; ComponentLink3Description: Package Specification; ComponentLink3URL: http://www.ti.com/litv/pdf/mlcc006d
footprint TI-FK20_N (Leadless Chip Carrier, 20-Leads, Body 8.9x8.9mm, Pitch 1.27mm, IPC Medium Density)
footprint TI-FK20_L (Leadless Chip Carrier, 20-Leads, Body 8.9x8.9mm, Pitch 1.27mm, IPC High Density)
footprint TI-FK20_M (Leadless Chip Carrier, 20-Leads, Body 8.9x8.9mm, Pitch 1.27mm, IPC Low Density)
part A pins: 5 IN- (in), 7 IN+ (in), 10 GND (power), 15 OUT (out), 17 VDD (power)
part B pins: 1 NC, 2 NC, 3 NC, 4 NC, 6 NC, 8 NC, 9 NC, 11 NC, 12 NC, 13 NC, 14 NC, 16 NC, 18 NC, 19 NC, 20 NC

## TLV2461MJGB
designator U?
Single, Low Power, Rail-to-Rail Input / Output Operational Amplifier, 2.7 to 6 V, -55 to 125 degC, 8-pin DIP (JG8); Manufacturer: Texas Instruments; PartNumber: TLV2461MJGB; CMRR(Min)(dB): 66; IIB(Max)(pA): 14000; Iq per channel(Max)(mA): 0.575; Number of Channels: 1; Offset Drift(Typ)(uV/C): 2; Slew Rate(Typ)(V/us): 1.6; Sub Family: High Output Current Amplifier (>=50mA), Low Supply Voltage Amplifier (<=2.7V), Precision Amplifier; Total Supply Voltage(Max)(+5V is 5, +/-5V is 10): 6; Total Supply Voltage(Min)(+5V is 5, +/-5V is 10): 2.7; Vn at 1kHz(Typ)(nV/rtHz): 11; DatasheetVersion: SLOS220J; PackageVersion: 4040107/C, 08/1996; PackageReference: JG8; PackageDescription: 8-Pin Ceramic, Glass In-Line, Body 9.58 x 6.665 mm, Pitch 2.54 mm; Vio (25C)(Max)(mV): 2; Mounting Technology: Through Hole; ComponentLink1Description: Manufacturer URL; ComponentLink1URL: http://www.ti.com/; ComponentLink2Description: Datasheet; ComponentLink2URL: http://www.ti.com/general/docs/lit/getliterature.tsp?genericPartNumber=TLV2461M&fileType=pdf; ComponentLink3Description: Package Specification; ComponentLink3URL: http://www.ti.com/litv/pdf/mcer001a
footprint TI-JG8 (DIP, 8-Leads, Body 10.15x7.1mm, Pitch 2.54mm)
part A pins: 2 IN- (in), 3 IN+ (in), 4 GND (power), 6 OUT (out), 7 VDD+ (power)
part B pins: 1 NC, 5 NC, 8 NC

## TLV2461QDG4
designator U?
Single, Low Power, Rail-to-Rail Input / Output Operational Amplifier, 2.7 to 6 V, -40 to 125 degC, 8-pin SOIC (D8), Green (RoHS & no Sb/Br); Manufacturer: Texas Instruments; PartNumber: TLV2461QDG4; CMRR(Min)(dB): 66; IIB(Max)(pA): 14000; Iq per channel(Max)(mA): 0.575; Number of Channels: 1; Offset Drift(Typ)(uV/C): 2; Slew Rate(Typ)(V/us): 1.6; Sub Family: High Output Current Amplifier (>=50mA), Low Supply Voltage Amplifier (<=2.7V), Precision Amplifier; Total Supply Voltage(Max)(+5V is 5, +/-5V is 10): 6; Total Supply Voltage(Min)(+5V is 5, +/-5V is 10): 2.7; Vn at 1kHz(Typ)(nV/rtHz): 11; DatasheetVersion: SLOS220J; PackageVersion: 4040047-3/M, 06/2011; PackageReference: D8; PackageDescription: 8-Pin Plastic Small Outline, Body 4.9 x 3.9 mm, Pitch 1.27 mm; Supplier 1: Digi-Key; Supplier Part Number 1: TLV2461QDG4-ND; Supplier 2: Mouser; Supplier Part Number 2: 595-TLV2461QDG4; Eco-Plan: Green (RoHS & no Sb/Br); Vio (25C)(Max)(mV): 2; Mounting Technology: Surface Mount; Code_JEDEC: MS-012; ComponentLink1Description: Manufacturer URL; ComponentLink1URL: http://www.ti.com/; ComponentLink2Description: Datasheet; ComponentLink2URL: http://www.ti.com/general/docs/lit/getliterature.tsp?genericPartNumber=TLV2461&fileType=pdf; ComponentLink3Description: Package Specification; ComponentLink3URL: http://www.ti.com/litv/pdf/msoi002j
footprint TI-D8_N (SOIC, 8-Leads, Body 4.9x3.9mm, Pitch 1.27mm, IPC Medium Density)
footprint TI-D8_L (SOIC, 8-Leads, Body 4.9x3.9mm, Pitch 1.27mm, IPC High Density)
footprint TI-D8_M (SOIC, 8-Leads, Body 4.9x3.9mm, Pitch 1.27mm, IPC Low Density)
part A pins: 2 IN- (in), 3 IN+ (in), 4 GND (power), 6 OUT (out), 7 VDD+ (power)
part B pins: 1 NC, 5 NC, 8 NC

## TLV2461QDRG4
designator U?
Single, Low Power, Rail-to-Rail Input / Output Operational Amplifier, 2.7 to 6 V, -40 to 125 degC, 8-pin SOIC (D8), Green (RoHS & no Sb/Br); Manufacturer: Texas Instruments; PartNumber: TLV2461QDRG4; CMRR(Min)(dB): 66; IIB(Max)(pA): 14000; Iq per channel(Max)(mA): 0.575; Number of Channels: 1; Offset Drift(Typ)(uV/C): 2; Slew Rate(Typ)(V/us): 1.6; Sub Family: High Output Current Amplifier (>=50mA), Low Supply Voltage Amplifier (<=2.7V), Precision Amplifier; Total Supply Voltage(Max)(+5V is 5, +/-5V is 10): 6; Total Supply Voltage(Min)(+5V is 5, +/-5V is 10): 2.7; Vn at 1kHz(Typ)(nV/rtHz): 11; DatasheetVersion: SLOS220J; PackageVersion: 4040047-3/M, 06/2011; PackageReference: D8; PackageDescription: 8-Pin Plastic Small Outline, Body 4.9 x 3.9 mm, Pitch 1.27 mm; Supplier 1: Digi-Key; Supplier Part Number 1: TLV2461QDRG4-ND; Supplier 2: Mouser; Supplier Part Number 2: 595-TLV2461QDRG4; Eco-Plan: Green (RoHS & no Sb/Br); Vio (25C)(Max)(mV): 2; Mounting Technology: Surface Mount; Code_JEDEC: MS-012; ComponentLink1Description: Manufacturer URL; ComponentLink1URL: http://www.ti.com/; ComponentLink2Description: Datasheet; ComponentLink2URL: http://www.ti.com/general/docs/lit/getliterature.tsp?genericPartNumber=TLV2461&fileType=pdf; ComponentLink3Description: Package Specification; ComponentLink3URL: http://www.ti.com/litv/pdf/msoi002j
footprint TI-D8_N (SOIC, 8-Leads, Body 4.9x3.9mm, Pitch 1.27mm, IPC Medium Density)
footprint TI-D8_L (SOIC, 8-Leads, Body 4.9x3.9mm, Pitch 1.27mm, IPC High Density)
footprint TI-D8_M (SOIC, 8-Leads, Body 4.9x3.9mm, Pitch 1.27mm, IPC Low Density)
part A pins: 2 IN- (in), 3 IN+ (in), 4 GND (power), 6 OUT (out), 7 VDD+ (power)
part B pins: 1 NC, 5 NC, 8 NC

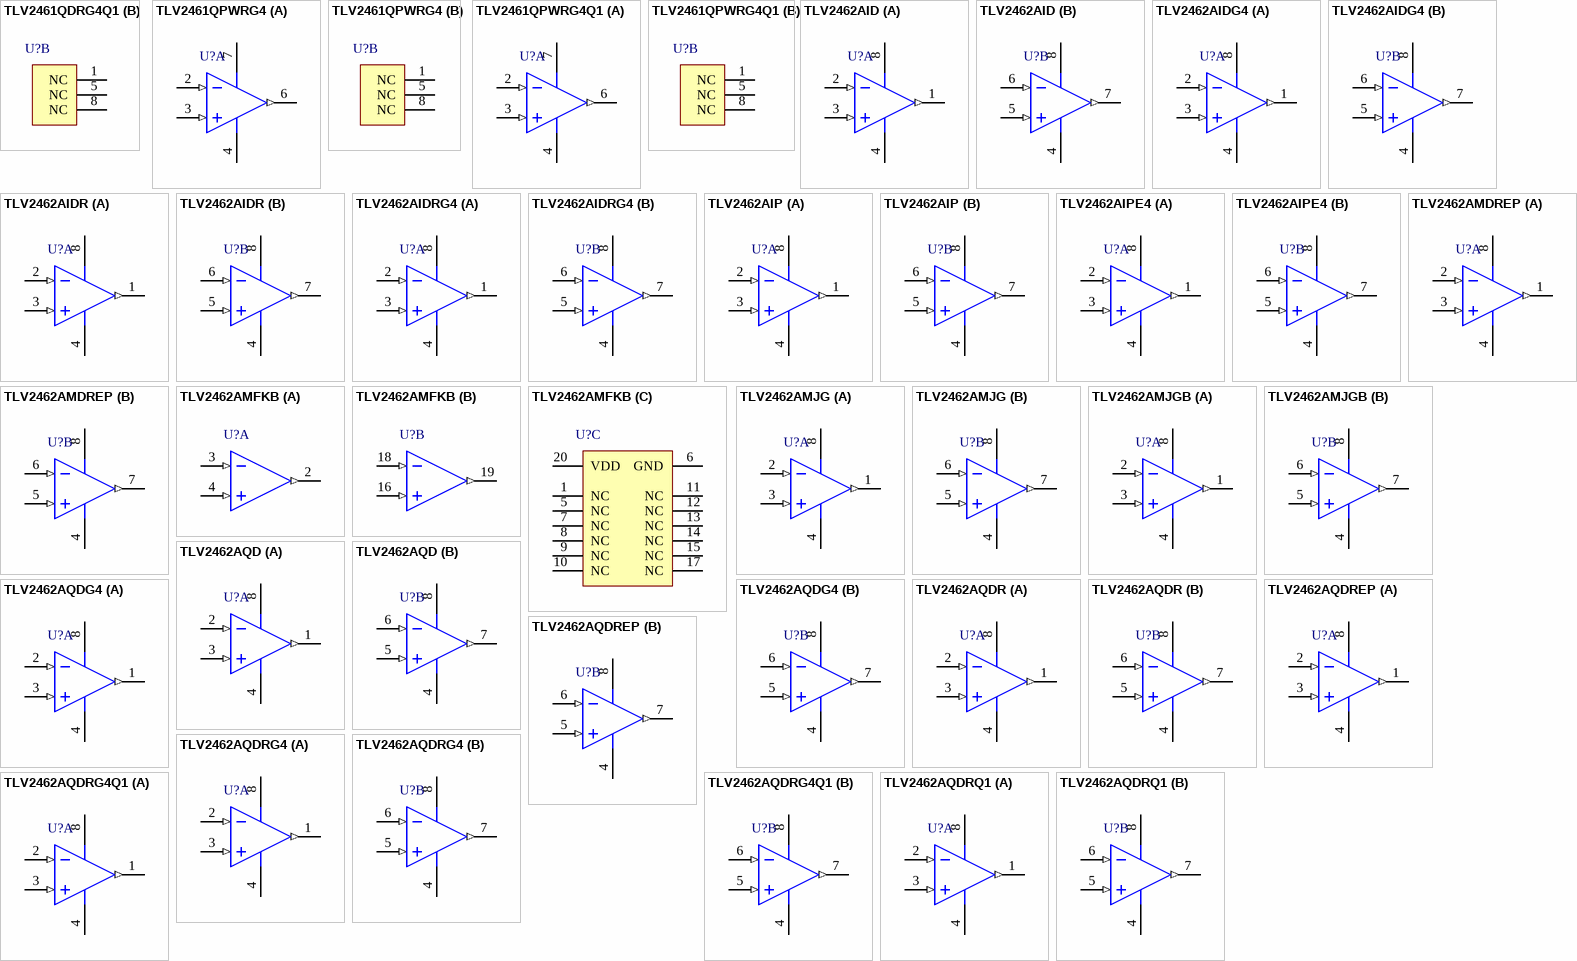
[diagram p103: symbols TLV2461QDRG4Q1 to TLV2462AQDRQ1]

## TLV2461QDRG4Q1
designator U?
Automotive Catalog Low-Power Rail-to-Rail Input / Output Operational Amplifier with Shutdown, 2.7 to 6 V, -40 to 125 degC, 8-pin SOIC (D8), Green (RoHS & no Sb/Br); Manufacturer: Texas Instruments; PartNumber: TLV2461QDRG4Q1; CMRR(Min)(dB): 66; IIB(Max)(pA): 14000; Iq per channel(Max)(mA): 0.575; Number of Channels: 1; Offset Drift(Typ)(uV/C): 2; Slew Rate(Typ)(V/us): 1.6; Sub Family: High Output Current Amplifier (>=50mA), Low Supply Voltage Amplifier (<=2.7V), Precision Amplifier; Total Supply Voltage(Max)(+5V is 5, +/-5V is 10): 6; Total Supply Voltage(Min)(+5V is 5, +/-5V is 10): 2.7; Vn at 1kHz(Typ)(nV/rtHz): 11; DatasheetVersion: SGLS008E; PackageVersion: 4040047-3/M, 06/2011; PackageReference: D8; PackageDescription: 8-Pin Plastic Small Outline, Body 4.9 x 3.9 mm, Pitch 1.27 mm; Supplier 1: Digi-Key; Supplier Part Number 1: TLV2461QDRG4Q1-ND; Supplier 2: Mouser; Supplier Part Number 2: 595-TLV2461QDRG4Q1; Eco-Plan: Green (RoHS & no Sb/Br); Vio (25C)(Max)(mV): 2; Mounting Technology: Surface Mount; Code_JEDEC: MS-012; ComponentLink1Description: Manufacturer URL; ComponentLink1URL: http://www.ti.com/; ComponentLink2Description: Datasheet; ComponentLink2URL: http://www.ti.com/general/docs/lit/getliterature.tsp?genericPartNumber=TLV2461-Q1&fileType=pdf; ComponentLink3Description: Package Specification; ComponentLink3URL: http://www.ti.com/litv/pdf/msoi002j
footprint TI-D8_N (SOIC, 8-Leads, Body 4.9x3.9mm, Pitch 1.27mm, IPC Medium Density)
footprint TI-D8_L (SOIC, 8-Leads, Body 4.9x3.9mm, Pitch 1.27mm, IPC High Density)
footprint TI-D8_M (SOIC, 8-Leads, Body 4.9x3.9mm, Pitch 1.27mm, IPC Low Density)
part A pins: 2 IN- (in), 3 IN+ (in), 4 GND (power), 6 OUT (out), 7 VDD+ (power)
part B pins: 1 NC, 5 NC, 8 NC

## TLV2461QPWRG4
designator U?
Single, Low Power, Rail-to-Rail Input / Output Operational Amplifier, 2.7 to 6 V, -40 to 125 degC, 8-pin SOP (PW8), Green (RoHS & no Sb/Br); Manufacturer: Texas Instruments; PartNumber: TLV2461QPWRG4; CMRR(Min)(dB): 66; IIB(Max)(pA): 14000; Iq per channel(Max)(mA): 0.575; Number of Channels: 1; Offset Drift(Typ)(uV/C): 2; Slew Rate(Typ)(V/us): 1.6; Sub Family: High Output Current Amplifier (>=50mA), Low Supply Voltage Amplifier (<=2.7V), Precision Amplifier; Total Supply Voltage(Max)(+5V is 5, +/-5V is 10): 6; Total Supply Voltage(Min)(+5V is 5, +/-5V is 10): 2.7; Vn at 1kHz(Typ)(nV/rtHz): 11; DatasheetVersion: SLOS220J; PackageVersion: 4040064-2/G, 02/2011; PackageReference: PW8; PackageDescription: 8-Pin Plastic Small Outline, Body 4.4 x 3 mm, Pitch 0.65 mm; Supplier 1: Digi-Key; Supplier Part Number 1: TLV2461QPWRG4-ND; Supplier 2: Mouser; Supplier Part Number 2: 595-TLV2461QPWRG4; Eco-Plan: Green (RoHS & no Sb/Br); Vio (25C)(Max)(mV): 2; Mounting Technology: Surface Mount; Code_JEDEC: MO-153; ComponentLink1Description: Manufacturer URL; ComponentLink1URL: http://www.ti.com/; ComponentLink2Description: Datasheet; ComponentLink2URL: http://www.ti.com/general/docs/lit/getliterature.tsp?genericPartNumber=TLV2461&fileType=pdf; ComponentLink3Description: Package Specification; ComponentLink3URL: http://www.ti.com/litv/pdf/mtss001d
footprint TI-PW8_N (SOP, 8-Leads, Body 4.4x3mm, Pitch 0.65mm, IPC Medium Density)
footprint TI-PW8_L (SOP, 8-Leads, Body 4.4x3mm, Pitch 0.65mm, IPC High Density)
footprint TI-PW8_M (SOP, 8-Leads, Body 4.4x3mm, Pitch 0.65mm, IPC Low Density)
part A pins: 2 IN- (in), 3 IN+ (in), 4 GND (power), 6 OUT (out), 7 VDD+ (power)
part B pins: 1 NC, 5 NC, 8 NC

## TLV2461QPWRG4Q1
designator U?
Automotive Catalog Low-Power Rail-to-Rail Input / Output Operational Amplifier with Shutdown, 2.7 to 6 V, -40 to 125 degC, 8-pin SOP (PW8), Green (RoHS & no Sb/Br); Manufacturer: Texas Instruments; PartNumber: TLV2461QPWRG4Q1; CMRR(Min)(dB): 66; IIB(Max)(pA): 14000; Iq per channel(Max)(mA): 0.575; Number of Channels: 1; Offset Drift(Typ)(uV/C): 2; Slew Rate(Typ)(V/us): 1.6; Sub Family: High Output Current Amplifier (>=50mA), Low Supply Voltage Amplifier (<=2.7V), Precision Amplifier; Total Supply Voltage(Max)(+5V is 5, +/-5V is 10): 6; Total Supply Voltage(Min)(+5V is 5, +/-5V is 10): 2.7; Vn at 1kHz(Typ)(nV/rtHz): 11; DatasheetVersion: SGLS008E; PackageVersion: 4040064-2/G, 02/2011; PackageReference: PW8; PackageDescription: 8-Pin Plastic Small Outline, Body 4.4 x 3 mm, Pitch 0.65 mm; Supplier 1: Digi-Key; Supplier Part Number 1: TLV2461QPWRG4Q1-ND; Supplier 2: Mouser; Supplier Part Number 2: 595-TLV2461QPWRG4Q1; Eco-Plan: Green (RoHS & no Sb/Br); Vio (25C)(Max)(mV): 2; Mounting Technology: Surface Mount; Code_JEDEC: MO-153; ComponentLink1Description: Manufacturer URL; ComponentLink1URL: http://www.ti.com/; ComponentLink2Description: Datasheet; ComponentLink2URL: http://www.ti.com/general/docs/lit/getliterature.tsp?genericPartNumber=TLV2461-Q1&fileType=pdf; ComponentLink3Description: Package Specification; ComponentLink3URL: http://www.ti.com/litv/pdf/mtss001d
footprint TI-PW8_N (SOP, 8-Leads, Body 4.4x3mm, Pitch 0.65mm, IPC Medium Density)
footprint TI-PW8_L (SOP, 8-Leads, Body 4.4x3mm, Pitch 0.65mm, IPC High Density)
footprint TI-PW8_M (SOP, 8-Leads, Body 4.4x3mm, Pitch 0.65mm, IPC Low Density)
part A pins: 2 IN- (in), 3 IN+ (in), 4 GND (power), 6 OUT (out), 7 VDD+ (power)
part B pins: 1 NC, 5 NC, 8 NC

## TLV2462AID
designator U?
Dual Low-Power, Rail-to-Rail Input / Output Operational Amplifier, 2.7 to 6 V, -40 to 125 degC, 8-pin SOIC (D8), Green (RoHS & no Sb/Br); Manufacturer: Texas Instruments; PartNumber: TLV2462AID; CMRR(Min)(dB): 66; IIB(Max)(pA): 14000; Iq per channel(Max)(mA): 0.575; Number of Channels: 2; Slew Rate(Typ)(V/us): 1.6; Sub Family: High Output Current Amplifier (>=50mA), Low Supply Voltage Amplifier (<=2.7V), Precision Amplifier; Total Supply Voltage(Max)(+5V is 5, +/-5V is 10): 6; Total Supply Voltage(Min)(+5V is 5, +/-5V is 10): 2.7; Vio (25C)(Max)(mV): 1.5; Vn at 1kHz(Typ)(nV/rtHz): 11; DatasheetVersion: SLOS220J; PackageVersion: 4040047-3/M, 06/2011; PackageReference: D8; PackageDescription: 8-Pin Plastic Small Outline, Body 4.9 x 3.9 mm, Pitch 1.27 mm; Supplier 1: Digi-Key; Supplier Part Number 1: 296-34441-5-ND; Supplier 2: Farnell; Supplier Part Number 2: 1459985; Supplier 3: Newark; Supplier Part Number 3: 62M0524; Supplier 4: Mouser; Supplier Part Number 4: 595-TLV2462AID; Eco-Plan: Green (RoHS & no Sb/Br); Offset Drift(Typ)(uV/C): 2; Mounting Technology: Surface Mount; Code_JEDEC: MS-012; ComponentLink1Description: Manufacturer URL; ComponentLink1URL: http://www.ti.com/; ComponentLink2Description: Datasheet; ComponentLink2URL: http://www.ti.com/general/docs/lit/getliterature.tsp?genericPartNumber=TLV2462A&fileType=pdf; ComponentLink3Description: Package Specification; ComponentLink3URL: http://www.ti.com/litv/pdf/msoi002j
footprint TI-D8_N (SOIC, 8-Leads, Body 4.9x3.9mm, Pitch 1.27mm, IPC Medium Density)
footprint TI-D8_L (SOIC, 8-Leads, Body 4.9x3.9mm, Pitch 1.27mm, IPC High Density)
footprint TI-D8_M (SOIC, 8-Leads, Body 4.9x3.9mm, Pitch 1.27mm, IPC Low Density)
pins on every part: 4 GND (power), 8 VDD+ (power)
part A pins: 1 OUT1 (out), 2 IN1- (in), 3 IN1+ (in)
part B pins: 5 IN2+ (in), 6 IN2- (in), 7 OUT2 (out)

## TLV2462AIDG4
designator U?
Dual Low-Power, Rail-to-Rail Input / Output Operational Amplifier, 2.7 to 6 V, -40 to 125 degC, 8-pin SOIC (D8), Green (RoHS & no Sb/Br); Manufacturer: Texas Instruments; PartNumber: TLV2462AIDG4; CMRR(Min)(dB): 66; IIB(Max)(pA): 14000; Iq per channel(Max)(mA): 0.575; Number of Channels: 2; Slew Rate(Typ)(V/us): 1.6; Sub Family: High Output Current Amplifier (>=50mA), Low Supply Voltage Amplifier (<=2.7V), Precision Amplifier; Total Supply Voltage(Max)(+5V is 5, +/-5V is 10): 6; Total Supply Voltage(Min)(+5V is 5, +/-5V is 10): 2.7; Vio (25C)(Max)(mV): 1.5; Vn at 1kHz(Typ)(nV/rtHz): 11; DatasheetVersion: SLOS220J; PackageVersion: 4040047-3/M, 06/2011; PackageReference: D8; PackageDescription: 8-Pin Plastic Small Outline, Body 4.9 x 3.9 mm, Pitch 1.27 mm; Supplier 1: Digi-Key; Supplier Part Number 1: TLV2462AIDG4-ND; Supplier 2: Mouser; Supplier Part Number 2: 595-TLV2462AIDG4; Eco-Plan: Green (RoHS & no Sb/Br); Offset Drift(Typ)(uV/C): 2; Mounting Technology: Surface Mount; Code_JEDEC: MS-012; ComponentLink1Description: Manufacturer URL; ComponentLink1URL: http://www.ti.com/; ComponentLink2Description: Datasheet; ComponentLink2URL: http://www.ti.com/general/docs/lit/getliterature.tsp?genericPartNumber=TLV2462A&fileType=pdf; ComponentLink3Description: Package Specification; ComponentLink3URL: http://www.ti.com/litv/pdf/msoi002j
footprint TI-D8_N (SOIC, 8-Leads, Body 4.9x3.9mm, Pitch 1.27mm, IPC Medium Density)
footprint TI-D8_L (SOIC, 8-Leads, Body 4.9x3.9mm, Pitch 1.27mm, IPC High Density)
footprint TI-D8_M (SOIC, 8-Leads, Body 4.9x3.9mm, Pitch 1.27mm, IPC Low Density)
pins on every part: 4 GND (power), 8 VDD+ (power)
part A pins: 1 OUT1 (out), 2 IN1- (in), 3 IN1+ (in)
part B pins: 5 IN2+ (in), 6 IN2- (in), 7 OUT2 (out)

## TLV2462AIDR
designator U?
Dual Low-Power, Rail-to-Rail Input / Output Operational Amplifier, 2.7 to 6 V, -40 to 125 degC, 8-pin SOIC (D8), Green (RoHS & no Sb/Br); Manufacturer: Texas Instruments; PartNumber: TLV2462AIDR; CMRR(Min)(dB): 66; IIB(Max)(pA): 14000; Iq per channel(Max)(mA): 0.575; Number of Channels: 2; Slew Rate(Typ)(V/us): 1.6; Sub Family: High Output Current Amplifier (>=50mA), Low Supply Voltage Amplifier (<=2.7V), Precision Amplifier; Total Supply Voltage(Max)(+5V is 5, +/-5V is 10): 6; Total Supply Voltage(Min)(+5V is 5, +/-5V is 10): 2.7; Vio (25C)(Max)(mV): 1.5; Vn at 1kHz(Typ)(nV/rtHz): 11; DatasheetVersion: SLOS220J; PackageVersion: 4040047-3/M, 06/2011; PackageReference: D8; PackageDescription: 8-Pin Plastic Small Outline, Body 4.9 x 3.9 mm, Pitch 1.27 mm; Supplier 1: Digi-Key; Supplier Part Number 1: 296-7557-2-ND; Supplier 2: Digi-Key; Supplier Part Number 2: 296-7557-1-ND; Supplier 3: Digi-Key; Supplier Part Number 3: 296-7557-6-ND; Supplier 4: Newark; Supplier Part Number 4: 76C8195; Supplier 5: Mouser; Supplier Part Number 5: 595-TLV2462AIDR; Eco-Plan: Green (RoHS & no Sb/Br); Offset Drift(Typ)(uV/C): 2; Mounting Technology: Surface Mount; Code_JEDEC: MS-012; ComponentLink1Description: Manufacturer URL; ComponentLink1URL: http://www.ti.com/; ComponentLink2Description: Datasheet; ComponentLink2URL: http://www.ti.com/general/docs/lit/getliterature.tsp?genericPartNumber=TLV2462A&fileType=pdf; ComponentLink3Description: Package Specification; ComponentLink3URL: http://www.ti.com/litv/pdf/msoi002j
footprint TI-D8_N (SOIC, 8-Leads, Body 4.9x3.9mm, Pitch 1.27mm, IPC Medium Density)
footprint TI-D8_L (SOIC, 8-Leads, Body 4.9x3.9mm, Pitch 1.27mm, IPC High Density)
footprint TI-D8_M (SOIC, 8-Leads, Body 4.9x3.9mm, Pitch 1.27mm, IPC Low Density)
pins on every part: 4 GND (power), 8 VDD+ (power)
part A pins: 1 OUT1 (out), 2 IN1- (in), 3 IN1+ (in)
part B pins: 5 IN2+ (in), 6 IN2- (in), 7 OUT2 (out)